# Altium schematic symbol library Switch_E-Switch_KS-01Q-01_eec.SchLib: 1 symbol
Pins are listed as number, name and electrical type; pins without a type are passive.

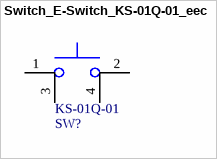
[diagram p0: symbol Switch_E-Switch_KS-01Q-01_eec]

## Switch_E-Switch_KS-01Q-01_eec
designator SW?  Part Number: KS-01Q-01
SWITCH Pushbutton Switch SPST-NO Standard Through Hole; Manufacturer: E-Switch; Capacitance: 1.0pF; Value: 1.0pF; Current Rating: 10mA (DC); Category 8Ce341E9Bf4C5724: Switches; Electrical Life: 250,000 Cycles; Mechanical Life: 500,000 Cycles; Category Db391633E8F300Fe: Industrial Control; Voltage Rating AC: 35 V; Mfg Package Ident: 29-KS01Q01; Voltage Rating - DC: 35V; Num Pins: 4; Actuator Type: Round, Button; helpURL: https://upverter.com/upn/revision/1624ef17402244a7/; ComponentLink2Description: Datasheet; Temperature: -20°C to +85°C; Package: 29-KS01Q01; Supplier 2: Mouser; Price: 0.435405037545; Supplier 1: Digi-Key; ComponentLink1URL: https://upverter.com/upn/revision/1624ef17402244a7/; Supplier Part Number 2: 612-KS-01Q-01; Supplier Part Number 1: EG4791-ND; ComponentLink1Description: Upverter; ComponentLink2URL: https://upverter.com/datasheet/3b708556f29b55c7f5db677c77a74973be95ebea.pdf; RoHS: TRUE; Mouser Part Number: 612-KS-01Q-01; Temperature Range High: +85°C; Digikey Description: SWITCH Pushbutton Switch SPST-NO Standard Through Hole; Digikey Part Number: EG4791-ND; Category 2Bfae6F01857F03D: Pushbutton; Lead Free: yes; Temperature Range Low: -20°C; Octopart Part Number: 72a6bab923faad61
footprint E-Switch_29-KS01Q01_0
pins: 1, 2, 3, 4